# Altium footprint library Ceresense_4-4.PcbLib: 13 footprints
Each footprint in its own frame and in the unit in brackets; x right, y up, seen from the top. Pads: shape width x height; smd on the part's side, far side on the other; paste and mask are expansions set on the pad; w line width, h text height; cw(c..) or ccw(c..) is an arc to the next point about the centre after c.
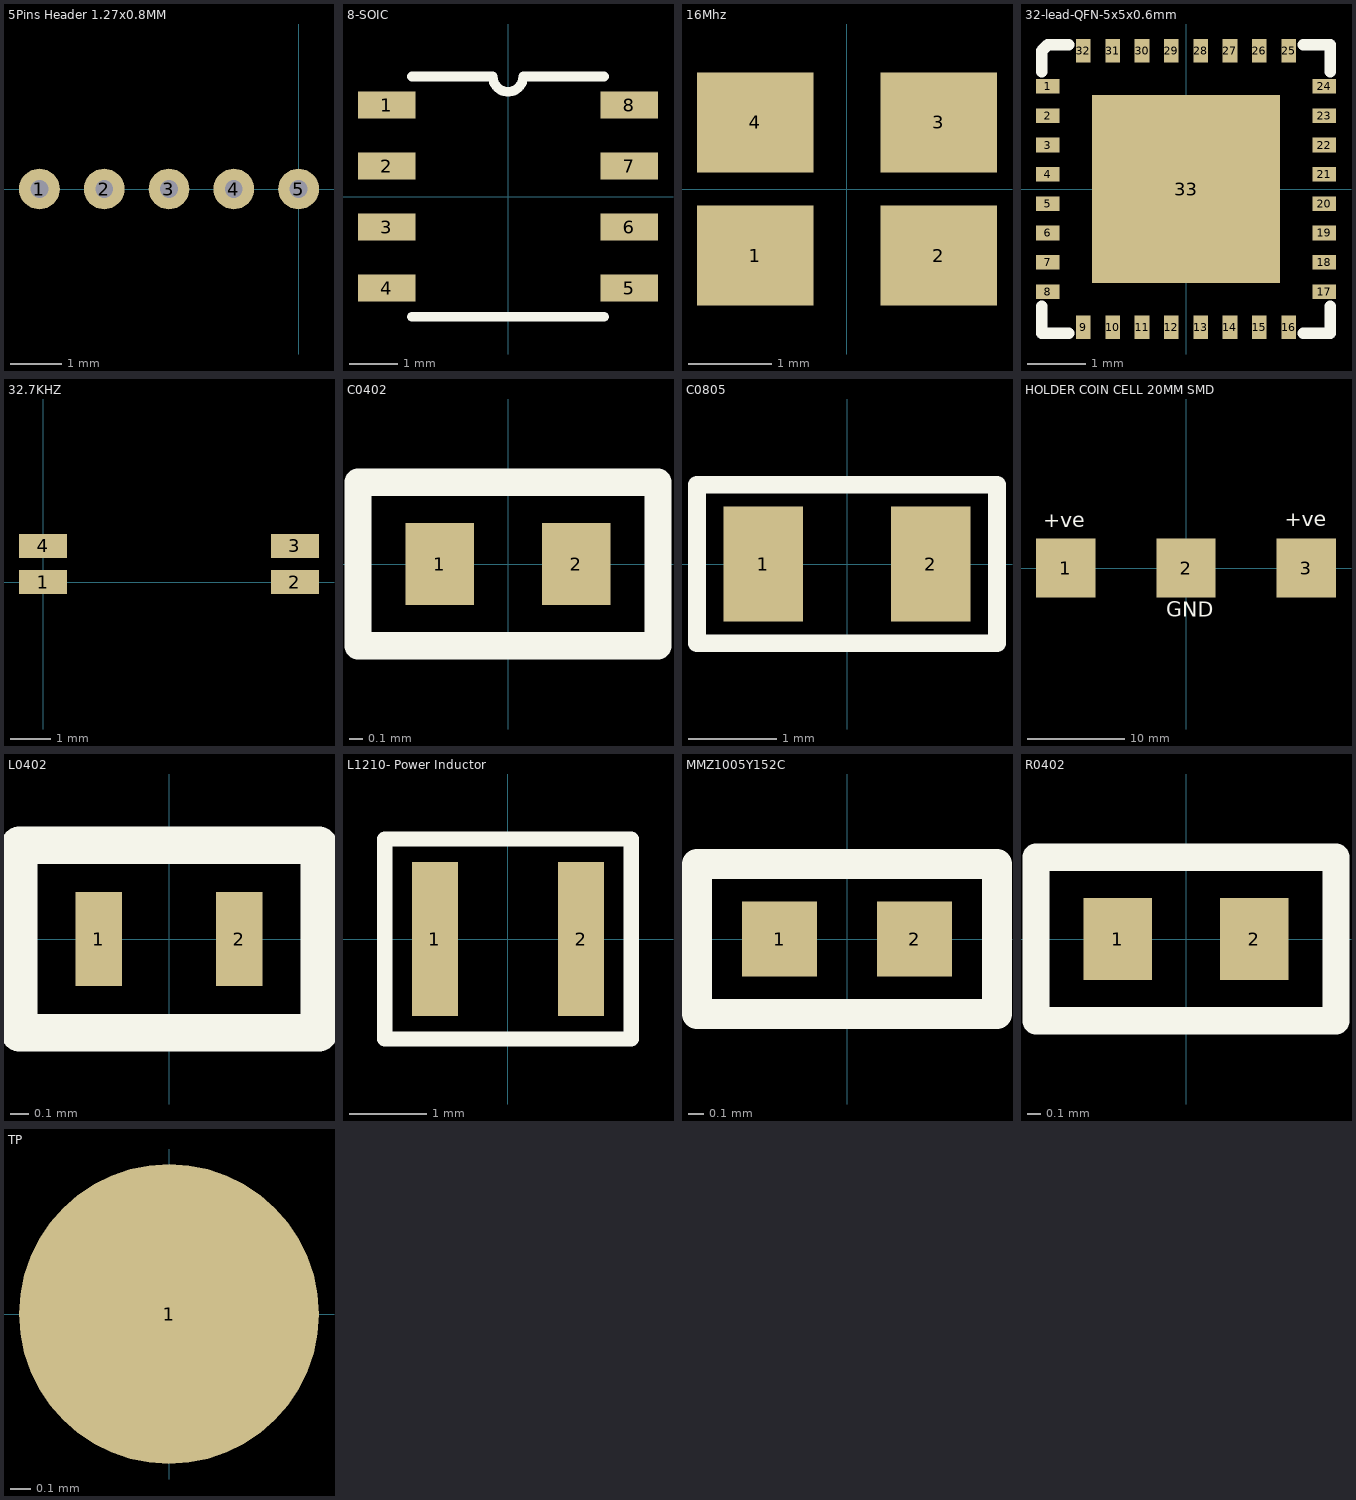
[diagram p0: the footprints below, top view; thin cyan lines are the x and y axes]

## 5Pins Header 1.27x0.8MM [mm]
pads (5):
  round 0.8 hole 0.35: 1(-5.08,0) 2(-3.81,0) 3(-2.54,0) 4(-1.27,0) 5(0,0)

## 8-SOIC [mm]
pads (8):
  rect 1.194x0.559 smd: 1(-2.527,1.905) 2(-2.527,0.635) 3(-2.527,-0.635) 4(-2.527,-1.905) 5(2.527,-1.905) 6(2.527,-0.635) 7(2.527,0.635) 8(2.527,1.905)
Top Overlay:
  lines w0.2: -2,-2.5 2,-2.5 ; -2,2.5 -0.318,2.5 ccw(c0,2.5) 0.318,2.5 2,2.5

## 16Mhz [mm] "SER3628CT-ND"
pads (4):
  rect 1.4x1.2 smd: 1(-1.1,-0.8) 2(1.1,-0.8) 3(1.1,0.8) 4(-1.1,0.8)

## 32-lead-QFN-5x5x0.6mm [mm]
pads (33):
  rect 0.4x0.25 smd mask+0.051: 1(-2.357,1.75) 2(-2.357,1.25) 3(-2.357,0.75) 4(-2.357,0.25) 5(-2.357,-0.25) 6(-2.357,-0.75) 7(-2.357,-1.25) 8(-2.357,-1.75) 17(2.357,-1.75) 18(2.357,-1.25) 19(2.357,-0.75) 20(2.357,-0.25) 21(2.357,0.25) 22(2.357,0.75) 23(2.357,1.25) 24(2.357,1.75)
  rect 0.25x0.4 smd mask+0.051: 9(-1.75,-2.357) 10(-1.25,-2.357) 11(-0.75,-2.357) 12(-0.25,-2.357) 13(0.25,-2.357) 14(0.75,-2.357) 15(1.25,-2.357) 16(1.75,-2.357) 25(1.75,2.357) 26(1.25,2.357) 27(0.75,2.357) 28(0.25,2.357) 29(-0.25,2.357) 30(-0.75,2.357) 31(-1.25,2.357) 32(-1.75,2.357)
  rect 3.2x3.2 smd mask+0.051: 33(0,0)
Top Overlay:
  lines w0.2: -2.457,-2 -2.457,-2.457 -2,-2.457 ; -2.457,2 -2.457,2.357 -2.357,2.457 -2,2.457 ; 2,-2.457 2.457,-2.457 2.457,-2 ; 2,2.457 2.457,2.457 2.457,2

## 32.7KHZ [mm] "XC1616CT-ND"
pads (4):
  rect 1.2x0.6 smd mask+0.051: 1(0,0) 2(6.3,0) 3(6.3,0.9) 4(0,0.9)

## C0402 [mm]
pads (2):
  rect 0.5x0.6 smd: 1(-0.5,0) 2(0.5,0)
Top Overlay:
  lines w0.2: -1.1,-0.6 -1.1,0.6 1.1,0.6 1.1,-0.6 -1.1,-0.6

## C0805 [mm]
pads (2):
  rect 0.9x1.3 smd: 1(-0.95,0) 2(0.95,0)
Top Overlay:
  lines w0.2: -1.7,-0.9 -1.7,0.9 1.7,0.9 1.7,-0.9 -1.7,-0.9

## HOLDER COIN CELL 20MM SMD [mm]
pads (3):
  rect 6.07x6.07 smd: 1(-12.33,0) 2(0,0) 3(12.33,0)
Top Overlay:
  text "GND" at -2,-5 h1.52
  text "+ve" at 10.1,4.3 h1.52
  text "+ve" at -14.6,4.2 h1.52

## L0402 [mm]
pads (2):
  rect 0.25x0.5 smd: 1(-0.375,0) 2(0.375,0)
Top Overlay:
  lines w0.2: -0.8,-0.5 0.8,-0.5 0.8,0.5 -0.8,0.5 -0.8,-0.5

## L1210- Power Inductor [mm]
pads (2):
  rect 0.6x2 smd: 1(-0.95,0) 2(0.95,0)
Top Overlay:
  lines w0.2: -1.6,-1.3 1.6,-1.3 1.6,1.3 -1.6,1.3 -1.6,-1.3

## MMZ1005Y152C [mm]
pads (2):
  rect 0.5x0.5 smd: 1(-0.45,0) 2(0.45,0)
Top Overlay:
  lines w0.2: -1,-0.5 1,-0.5 1,0.5 -1,0.5 -1,-0.5

## R0402 [mm]
pads (2):
  rect 0.5x0.6 smd: 1(-0.5,0) 2(0.5,0)
Top Overlay:
  lines w0.2: -1.1,-0.6 1.1,-0.6 1.1,0.6 -1.1,0.6 -1.1,-0.6

## TP [mm]
pads (1):
  round 1.5 smd: 1(0,0)